# Altium integrated library HAB_Components.IntLib: 21 symbols
Pins are listed as number, name and electrical type; pins without a type are passive.

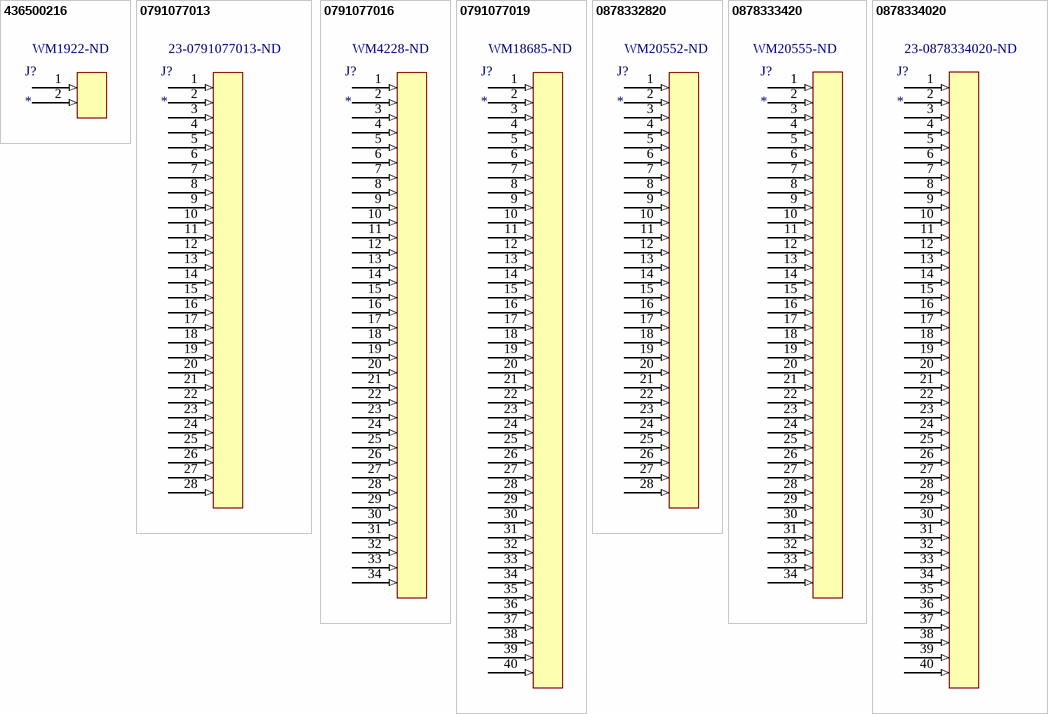
[diagram p0: symbols 436500216 to 0878334020]

## 436500216
designator J?  Supplier Part Number 1: WM1922-ND
Supplier 1: Digi-Key
footprint 436500216 (2 pin microfit header, vertical)
pins: 1 (in), 2 (in)

## 0791077013
designator J?  Supplier Part Number 1: 23-0791077013-ND
Supplier 1: Digi-Key
footprint 0791077013 (28 pin milli-grid receptacle, vertical)
pins: 1 (in), 2 (in), 3 (in), 4 (in), 5 (in), 6 (in), 7 (in), 8 (in), 9 (in), 10 (in), 11 (in), 12 (in), 13 (in), 14 (in), 15 (in), 16 (in), 17 (in), 18 (in), 19 (in), 20 (in), 21 (in), 22 (in), 23 (in), 24 (in), 25 (in), 26 (in), 27 (in), 28 (in)

## 0791077016
designator J?  Supplier Part Number 1: WM4228-ND
Supplier 1: Digi-Key
footprint 0791077016 (34 pin milli-grid receptacle, vertical)
pins: 1 (in), 2 (in), 3 (in), 4 (in), 5 (in), 6 (in), 7 (in), 8 (in), 9 (in), 10 (in), 11 (in), 12 (in), 13 (in), 14 (in), 15 (in), 16 (in), 17 (in), 18 (in), 19 (in), 20 (in), 21 (in), 22 (in), 23 (in), 24 (in), 25 (in), 26 (in), 27 (in), 28 (in), 29 (in), 30 (in), 31 (in), 32 (in), 33 (in), 34 (in)

## 0791077019
designator J?  Supplier Part Number 1: WM18685-ND
Supplier 1: Digi-Key
footprint 0791077019 (40 pin milli-grid receptacle, vertical)
pins: 1 (in), 2 (in), 3 (in), 4 (in), 5 (in), 6 (in), 7 (in), 8 (in), 9 (in), 10 (in), 11 (in), 12 (in), 13 (in), 14 (in), 15 (in), 16 (in), 17 (in), 18 (in), 19 (in), 20 (in), 21 (in), 22 (in), 23 (in), 24 (in), 25 (in), 26 (in), 27 (in), 28 (in), 29 (in), 30 (in), 31 (in), 32 (in), 33 (in), 34 (in), 35 (in), 36 (in), 37 (in), 38 (in), 39 (in), 40 (in)

## 0878332820
designator J?  Supplier Part Number 1: WM20552-ND
Supplier 1: Digi-Key
footprint 0878332820 (28 pin milli-grid header, right-angle)
pins: 1 (in), 2 (in), 3 (in), 4 (in), 5 (in), 6 (in), 7 (in), 8 (in), 9 (in), 10 (in), 11 (in), 12 (in), 13 (in), 14 (in), 15 (in), 16 (in), 17 (in), 18 (in), 19 (in), 20 (in), 21 (in), 22 (in), 23 (in), 24 (in), 25 (in), 26 (in), 27 (in), 28 (in)

## 0878333420
designator J?  Supplier Part Number 1: WM20555-ND
Supplier 1: Digi-Key
footprint 0878333420 (34 pin milli-grid header, right-angle)
pins: 1 (in), 2 (in), 3 (in), 4 (in), 5 (in), 6 (in), 7 (in), 8 (in), 9 (in), 10 (in), 11 (in), 12 (in), 13 (in), 14 (in), 15 (in), 16 (in), 17 (in), 18 (in), 19 (in), 20 (in), 21 (in), 22 (in), 23 (in), 24 (in), 25 (in), 26 (in), 27 (in), 28 (in), 29 (in), 30 (in), 31 (in), 32 (in), 33 (in), 34 (in)

## 0878334020
designator J?  Supplier Part Number 1: 23-0878334020-ND
Supplier 1: Digi-Key
footprint 0878334020 (40 pin milli-grid header, right-angle)
pins: 1 (in), 2 (in), 3 (in), 4 (in), 5 (in), 6 (in), 7 (in), 8 (in), 9 (in), 10 (in), 11 (in), 12 (in), 13 (in), 14 (in), 15 (in), 16 (in), 17 (in), 18 (in), 19 (in), 20 (in), 21 (in), 22 (in), 23 (in), 24 (in), 25 (in), 26 (in), 27 (in), 28 (in), 29 (in), 30 (in), 31 (in), 32 (in), 33 (in), 34 (in), 35 (in), 36 (in), 37 (in), 38 (in), 39 (in), 40 (in)


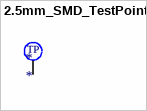
[diagram p1: symbol 2.5mm_SMD_TestPoint]

## 2.5mm_SMD_TestPoint
designator *
footprint 2.5mm TestPoint
pins: 1
text: TP


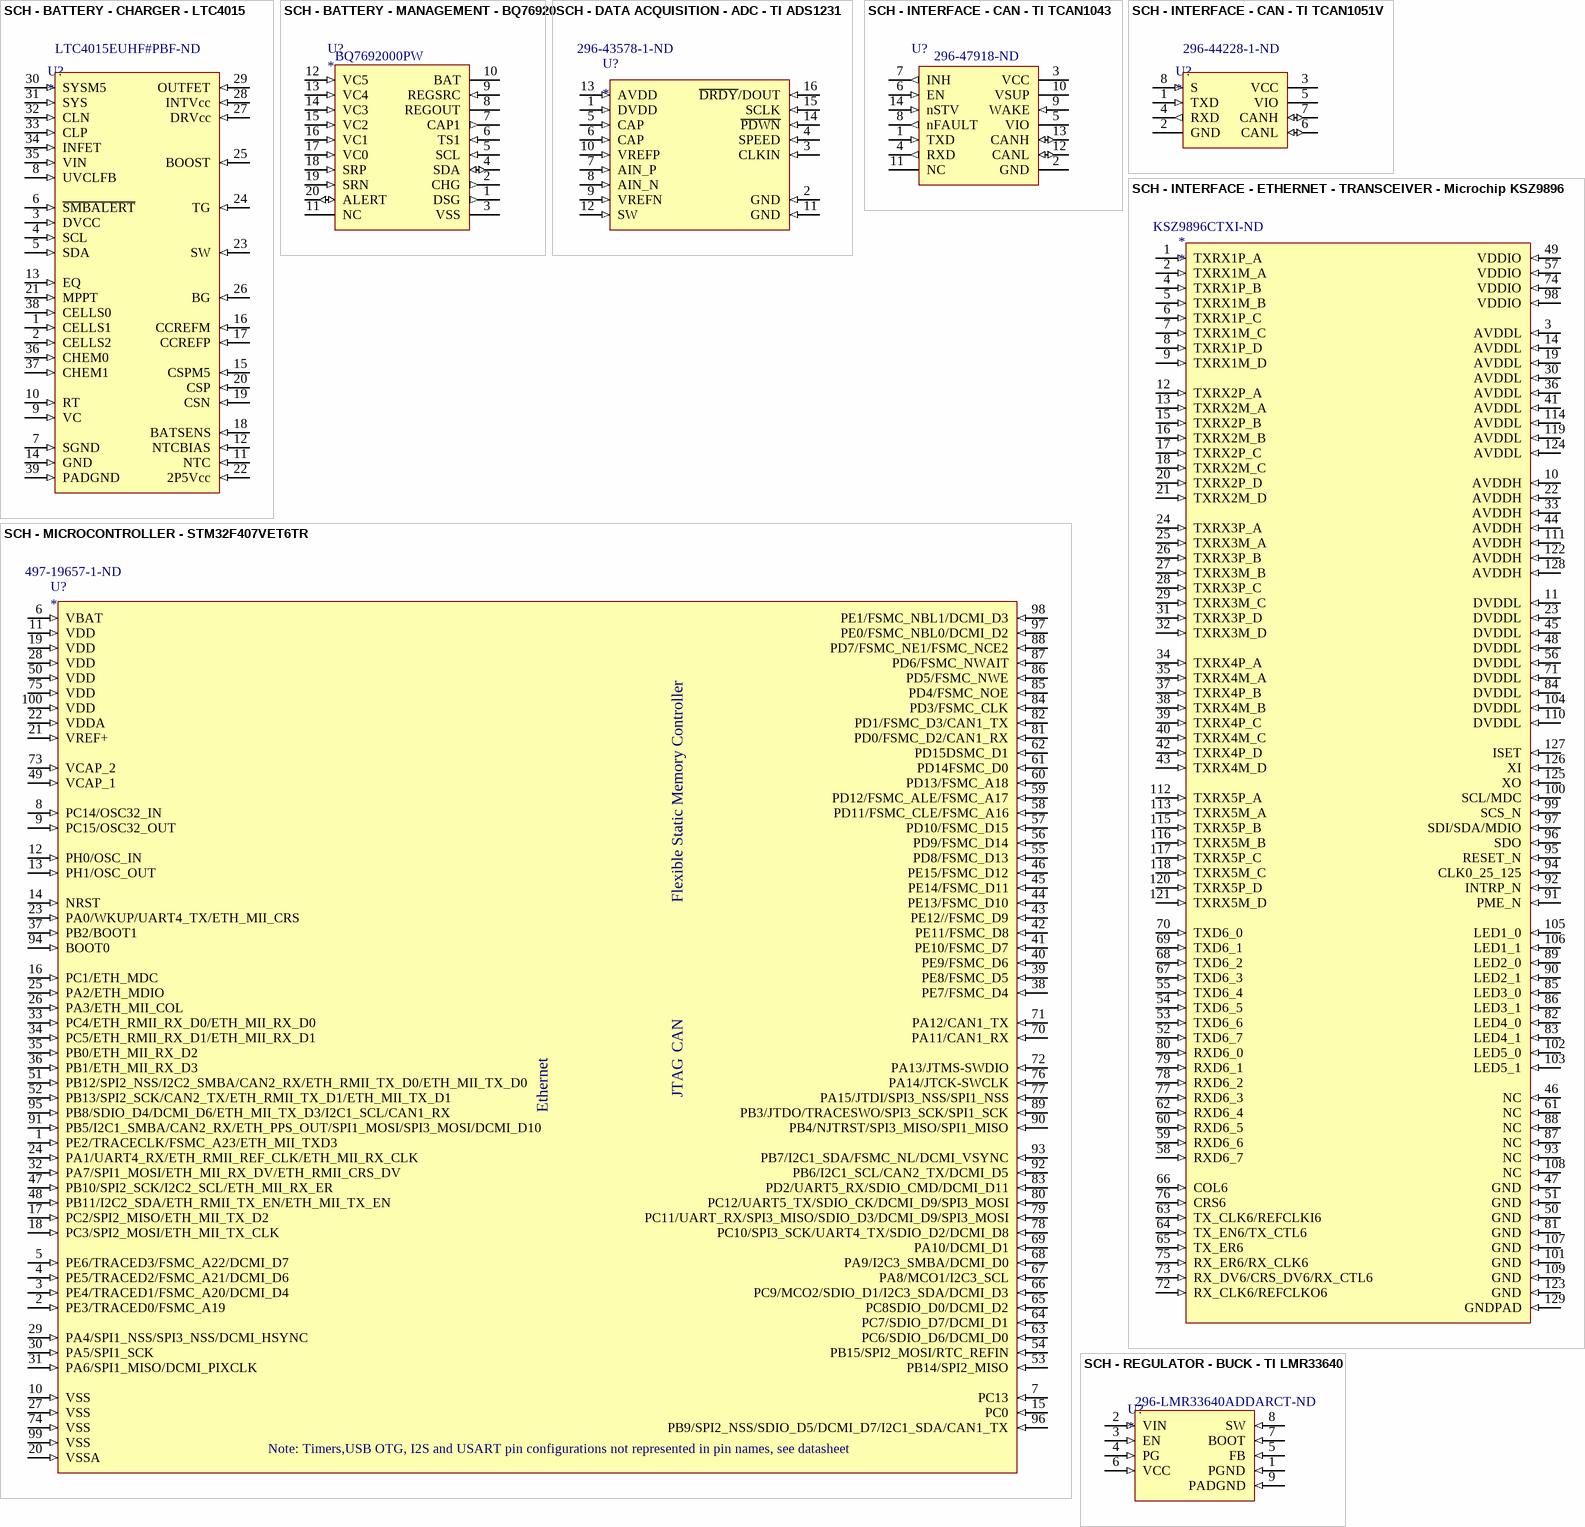
[diagram p2: symbols SCH - BATTERY - CHARGER - LTC4015 to SCH - REGULATOR - BUCK - TI LMR33640]

## SCH - BATTERY - CHARGER - LTC4015
designator U?  Supplier Part Number 1: LTC4015EUHF#PBF-ND
Supplier 1: Digi-Key
footprint PCB - LEADLESS - QFN - Analog 38-WFQFN
pins: 1 CELLS1 (in), 2 CELLS2 (in), 3 DVCC (in), 4 SCL (in), 5 SDA (in), 6 ~{SMBALERT} (in), 7 SGND (in), 8 UVCLFB (in), 9 VC (in), 10 RT (in), 11 NTC (in), 12 NTCBIAS (in), 13 EQ (in), 14 GND (in), 15 CSPM5 (in), 16 CCREFM (in), 17 CCREFP (in), 18 BATSENS (in), 19 CSN (in), 20 CSP (in), 21 MPPT (in), 22 2P5Vcc (in), 23 SW (in), 24 TG (in), 25 BOOST (in), 26 BG (in), 27 DRVcc (in), 28 INTVcc (in), 29 OUTFET (in), 30 SYSM5 (in), 31 SYS (in), 32 CLN (in), 33 CLP (in), 34 INFET (in), 35 VIN (in), 36 CHEM0 (in), 37 CHEM1 (in), 38 CELLS0 (in), 39 PADGND (in)

## SCH - BATTERY - MANAGEMENT - BQ76920
designator U?  Supplier Part Number 1: BQ7692000PW
Supplier 1: Rochester Electronics
footprint PCB - LEADS - SOP - TI 20-TSSOP
pins: 1 DSG (out), 2 CHG (out), 3 VSS (power), 4 SDA (io), 5 SCL (in), 6 TS1 (in), 7 CAP1 (out), 8 REGOUT (power), 9 REGSRC (in), 10 BAT (power), 11 NC, 12 VC5 (in), 13 VC4 (in), 14 VC3 (in), 15 VC2 (in), 16 VC1 (in), 17 VC0 (in), 18 SRP (in), 19 SRN (in), 20 ALERT (io)

## SCH - DATA ACQUISITION - ADC - TI ADS1231
designator U?  Supplier Part Number 1: 296-43578-1-ND
Supplier 1: Digi-Key
footprint PCB - LEADS - SOIC - TI 16-SOIC (SOIC, 16-Leads, Body 9.90x3.90mm, Pitch 1.27mm, IPC Medium Density)
pins: 1 DVDD (in), 2 GND (in), 3 CLKIN (in), 4 SPEED (in), 5 CAP (in), 6 CAP (in), 7 AIN_P (in), 8 AIN_N (in), 9 VREFN (in), 10 VREFP (in), 11 GND (in), 12 SW (in), 13 AVDD (in), 14 ~{PDWN} (in), 15 SCLK (in), 16 ~{DRDY}/DOUT (in)

## SCH - INTERFACE - CAN - TI TCAN1043
designator U?  Supplier Part Number 1: 296-47918-ND
Supplier 1: Digi-Key
footprint PCB - LEADS - SOIC - TI 14-SOIC
pins: 1 TXD (in), 2 GND (power), 3 VCC (power), 4 RXD (out), 5 VIO (power), 6 EN (in), 7 INH (out), 8 nFAULT (out), 9 WAKE (in), 10 VSUP (power), 11 NC, 12 CANL (io), 13 CANH (io), 14 nSTV (in)

## SCH - INTERFACE - CAN - TI TCAN1051V
designator U?  Supplier Part Number 1: 296-44228-1-ND
Supplier 1: Digi-Key
footprint PCB - LEADS - SOIC - TI SOIC-8 (SOIC, 8-Leads, Body 4.91x3.90mm, Pitch 1.27mm, IPC Medium Density)
pins: 1 TXD (in), 2 GND (power), 3 VCC (power), 4 RXD (out), 5 VIO (power), 6 CANL (io), 7 CANH (io), 8 S (in)

## SCH - INTERFACE - ETHERNET - TRANSCEIVER - Microchip KSZ9896
designator *  Supplier Part Number 1: KSZ9896CTXI-ND
Supplier 1: Digi-Key
footprint PCB - LEADS - QFP - Microchip 128-TQFP
pins: 1 TXRX1P_A (in), 2 TXRX1M_A (in), 3 AVDDL (in), 4 TXRX1P_B (in), 5 TXRX1M_B (in), 6 TXRX1P_C (in), 7 TXRX1M_C (in), 8 TXRX1P_D (in), 9 TXRX1M_D (in), 10 AVDDH (in), 11 DVDDL (in), 12 TXRX2P_A (in), 13 TXRX2M_A (in), 14 AVDDL (in), 15 TXRX2P_B (in), 16 TXRX2M_B (in), 17 TXRX2P_C (in), 18 TXRX2M_C (in), 19 AVDDL (in), 20 TXRX2P_D (in), 21 TXRX2M_D (in), 22 AVDDH (in), 23 DVDDL (in), 24 TXRX3P_A (in), 25 TXRX3M_A (in), 26 TXRX3P_B (in), 27 TXRX3M_B (in), 28 TXRX3P_C (in), 29 TXRX3M_C (in), 30 AVDDL (in), 31 TXRX3P_D (in), 32 TXRX3M_D (in), 33 AVDDH (in), 34 TXRX4P_A (in), 35 TXRX4M_A (in), 36 AVDDL (in), 37 TXRX4P_B (in), 38 TXRX4M_B (in), 39 TXRX4P_C (in), 40 TXRX4M_C (in), 41 AVDDL (in), 42 TXRX4P_D (in), 43 TXRX4M_D (in), 44 AVDDH (in), 45 DVDDL (in), 46 NC (in), 47 GND (in), 48 DVDDL (in), 49 VDDIO (in), 50 GND (in), 51 GND (in), 52 TXD6_7 (in), 53 TXD6_6 (in), 54 TXD6_5 (in), 55 TXD6_4 (in), 56 DVDDL (in), 57 VDDIO (in), 58 RXD6_7 (in), 59 RXD6_6 (in), 60 RXD6_5 (in), 61 NC (in), 62 RXD6_4 (in), 63 TX_CLK6/REFCLKI6 (in), 64 TX_EN6/TX_CTL6 (in), 65 TX_ER6 (in), 66 COL6 (in), 67 TXD6_3 (in), 68 TXD6_2 (in), 69 TXD6_1 (in), 70 TXD6_0 (in), 71 DVDDL (in), 72 RX_CLK6/REFCLKO6 (in), 73 RX_DV6/CRS_DV6/RX_CTL6 (in), 74 VDDIO (in), 75 RX_ER6/RX_CLK6 (in), 76 CRS6 (in), 77 RXD6_3 (in), 78 RXD6_2 (in), 79 RXD6_1 (in), 80 RXD6_0 (in), 81 GND (in), 82 LED4_0 (in), 83 LED4_1 (in), 84 DVDDL (in), 85 LED3_0 (in), 86 LED3_1 (in), 87 NC (in), 88 NC (in), 89 LED2_0 (in), 90 LED2_1 (in), 91 PME_N (in), 92 INTRP_N (in), 93 NC (in), 94 CLK0_25_125 (in), 95 RESET_N (in), 96 SDO (in), 97 SDI/SDA/MDIO (in), 98 VDDIO (in), 99 SCS_N (in), 100 SCL/MDC (in), 101 GND (in), 102 LED5_0 (in), 103 LED5_1 (in), 104 DVDDL (in), 105 LED1_0 (in), 106 LED1_1 (in), 107 GND (in), 108 NC (in), 109 GND (in), 110 DVDDL (in), 111 AVDDH (in), 112 TXRX5P_A (in), 113 TXRX5M_A (in), 114 AVDDL (in), 115 TXRX5P_B (in), 116 TXRX5M_B (in), 117 TXRX5P_C (in), 118 TXRX5M_C (in), 119 AVDDL (in), 120 TXRX5P_D (in), 121 TXRX5M_D (in), 122 AVDDH (in), 123 GND (in), 124 AVDDL (in), 125 XO (in), 126 XI (in), 127 ISET (in), 128 AVDDH (in), 129 GNDPAD (in)

## SCH - MICROCONTROLLER - STM32F407VET6TR
designator U?  Supplier Part Number 1: 497-19657-1-ND
Supplier 1: Digi-Key
footprint PCB - LEADLESS - QFP - ST LQFP-100 14X14MM (LQFP, 100-Leads, Body 14.00x14.00mm, Pitch 0.50mm, IPC Medium Density)
pins: 1 PE2/TRACECLK/FSMC_A23/ETH_MII_TXD3 (in), 2 PE3/TRACED0/FSMC_A19 (in), 3 PE4/TRACED1/FSMC_A20/DCMI_D4 (in), 4 PE5/TRACED2/FSMC_A21/DCMI_D6 (in), 5 PE6/TRACED3/FSMC_A22/DCMI_D7 (in), 6 VBAT (in), 7 PC13 (in), 8 PC14/OSC32_IN (in), 9 PC15/OSC32_OUT (in), 10 VSS (in), 11 VDD (in), 12 PH0/OSC_IN (in), 13 PH1/OSC_OUT (in), 14 NRST (in), 15 PC0 (in), 16 PC1/ETH_MDC (in), 17 PC2/SPI2_MISO/ETH_MII_TX_D2 (in), 18 PC3/SPI2_MOSI/ETH_MII_TX_CLK (in), 19 VDD (in), 20 VSSA (in), 21 VREF+ (in), 22 VDDA (in), 23 PA0/WKUP/UART4_TX/ETH_MII_CRS (in), 24 PA1/UART4_RX/ETH_RMII_REF_CLK/ETH_MII_RX_CLK (in), 25 PA2/ETH_MDIO (in), 26 PA3/ETH_MII_COL (in), 27 VSS (in), 28 VDD (in), 29 PA4/SPI1_NSS/SPI3_NSS/DCMI_HSYNC (in), 30 PA5/SPI1_SCK (in), 31 PA6/SPI1_MISO/DCMI_PIXCLK (in), 32 PA7/SPI1_MOSI/ETH_MII_RX_DV/ETH_RMII_CRS_DV (in), 33 PC4/ETH_RMII_RX_D0/ETH_MII_RX_D0 (in), 34 PC5/ETH_RMII_RX_D1/ETH_MII_RX_D1 (in), 35 PB0/ETH_MII_RX_D2 (in), 36 PB1/ETH_MII_RX_D3 (in), 37 PB2/BOOT1 (in), 38 PE7/FSMC_D4 (in), 39 PE8/FSMC_D5 (in), 40 PE9/FSMC_D6 (in), 41 PE10/FSMC_D7 (in), 42 PE11/FSMC_D8 (in), 43 PE12//FSMC_D9 (in), 44 PE13/FSMC_D10 (in), 45 PE14/FSMC_D11 (in), 46 PE15/FSMC_D12 (in), 47 PB10/SPI2_SCK/I2C2_SCL/ETH_MII_RX_ER (in), 48 PB11/I2C2_SDA/ETH_RMII_TX_EN/ETH_MII_TX_EN (in), 49 VCAP_1 (in), 50 VDD (in), 51 PB12/SPI2_NSS/I2C2_SMBA/CAN2_RX/ETH_RMII_TX_D0/ETH_MII_TX_D0 (in), 52 PB13/SPI2_SCK/CAN2_TX/ETH_RMII_TX_D1/ETH_MII_TX_D1 (in), 53 PB14/SPI2_MISO (in), 54 PB15/SPI2_MOSI/RTC_REFIN (in), 55 PD8/FSMC_D13 (in), 56 PD9/FSMC_D14 (in), 57 PD10/FSMC_D15 (in), 58 PD11/FSMC_CLE/FSMC_A16 (in), 59 PD12/FSMC_ALE/FSMC_A17 (in), 60 PD13/FSMC_A18 (in), 61 PD14FSMC_D0 (in), 62 PD15DSMC_D1 (in), 63 PC6/SDIO_D6/DCMI_D0 (in), 64 PC7/SDIO_D7/DCMI_D1 (in), 65 PC8SDIO_D0/DCMI_D2 (in), 66 PC9/MCO2/SDIO_D1/I2C3_SDA/DCMI_D3 (in), 67 PA8/MCO1/I2C3_SCL (in), 68 PA9/I2C3_SMBA/DCMI_D0 (in), 69 PA10/DCMI_D1 (in), 70 PA11/CAN1_RX (in), 71 PA12/CAN1_TX (in), 72 PA13/JTMS-SWDIO (in), 73 VCAP_2 (in), 74 VSS (in), 75 VDD (in), 76 PA14/JTCK-SWCLK (in), 77 PA15/JTDI/SPI3_NSS/SPI1_NSS (in), 78 PC10/SPI3_SCK/UART4_TX/SDIO_D2/DCMI_D8 (in), 79 PC11/UART_RX/SPI3_MISO/SDIO_D3/DCMI_D9/SPI3_MOSI (in), 80 PC12/UART5_TX/SDIO_CK/DCMI_D9/SPI3_MOSI (in), 81 PD0/FSMC_D2/CAN1_RX (in), 82 PD1/FSMC_D3/CAN1_TX (in), 83 PD2/UART5_RX/SDIO_CMD/DCMI_D11 (in), 84 PD3/FSMC_CLK (in), 85 PD4/FSMC_NOE (in), 86 PD5/FSMC_NWE (in), 87 PD6/FSMC_NWAIT (in), 88 PD7/FSMC_NE1/FSMC_NCE2 (in), 89 PB3/JTDO/TRACESWO/SPI3_SCK/SPI1_SCK (in), 90 PB4/NJTRST/SPI3_MISO/SPI1_MISO (in), 91 PB5/I2C1_SMBA/CAN2_RX/ETH_PPS_OUT/SPI1_MOSI/SPI3_MOSI/DCMI_D10 (in), 92 PB6/I2C1_SCL/CAN2_TX/DCMI_D5 (in), 93 PB7/I2C1_SDA/FSMC_NL/DCMI_VSYNC (in), 94 BOOT0 (in), 95 PB8/SDIO_D4/DCMI_D6/ETH_MII_TX_D3/I2C1_SCL/CAN1_RX (in), 96 PB9/SPI2_NSS/SDIO_D5/DCMI_D7/I2C1_SDA/CAN1_TX (in), 97 PE0/FSMC_NBL0/DCMI_D2 (in), 98 PE1/FSMC_NBL1/DCMI_D3 (in), 99 VSS (in), 100 VDD (in)
text: Flexible Static Memory Controller; CAN; JTAG; Ethernet; Note: Timers,USB OTG, I2S and USART pin configurations not represented in pin names, see datasheet

## SCH - REGULATOR - BUCK - TI LMR33640
designator U?  Supplier Part Number 1: 296-LMR33640ADDARCT-ND
Supplier 1: Digi-Key
footprint PCB - LEADS - SOIC - TI 8-PowerSOIC
pins: 1 PGND (in), 2 VIN (in), 3 EN (in), 4 PG (in), 5 FB (in), 6 VCC (in), 7 BOOT (in), 8 SW (in), 9 PADGND (in)

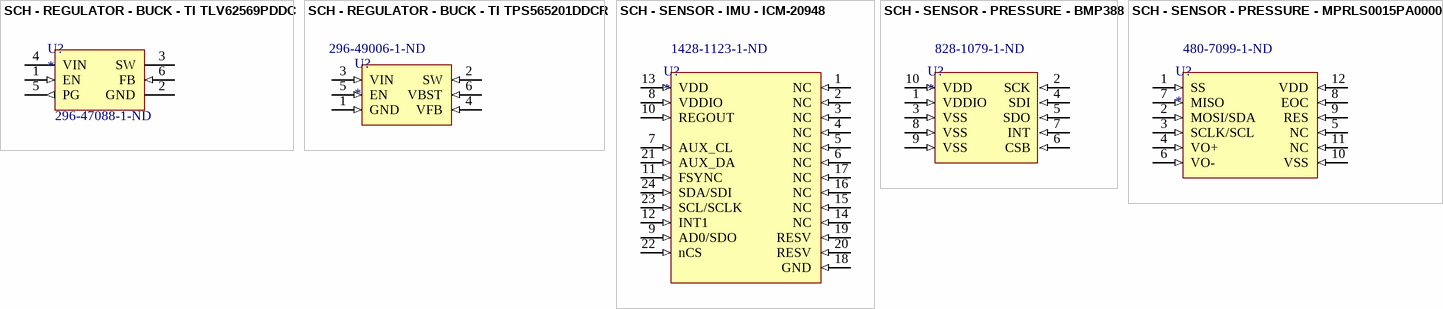
[diagram p3: symbols SCH - REGULATOR - BUCK - TI TLV62569PDDC to SCH - SENSOR - PRESSURE - MPRLS0015PA0000SA]

## SCH - REGULATOR - BUCK - TI TLV62569PDDC
designator U?  Supplier Part Number 1: 296-47088-1-ND
Supplier 1: Digi-Key
footprint PCB - LEADS - SOT- TI TSOT-23-6
pins: 1 EN (in), 2 GND (power), 3 SW (power), 4 VIN (power), 5 PG (out), 6 FB (in)

## SCH - REGULATOR - BUCK - TI TPS565201DDCR
designator U?  Supplier Part Number 1: 296-49006-1-ND
Supplier 1: Digi-Key
footprint PCB - LEADS - SOT- TI TSOT-23-6
pins: 1 GND (in), 2 SW (in), 3 VIN (in), 4 VFB (in), 5 EN (in), 6 VBST (in)

## SCH - SENSOR - IMU - ICM-20948
designator U?  Supplier Part Number 1: 1428-1123-1-ND
Supplier 1: Digi-Key
footprint PCB - LEADLESS - QFN - TDK 24-TFQFN
pins: 1 NC (in), 2 NC (in), 3 NC (in), 4 NC (in), 5 NC (in), 6 NC (in), 7 AUX_CL (in), 8 VDDIO (in), 9 AD0/SDO (in), 10 REGOUT (in), 11 FSYNC (in), 12 INT1 (in), 13 VDD (in), 14 NC (in), 15 NC (in), 16 NC (in), 17 NC (in), 18 GND (in), 19 RESV (in), 20 RESV (in), 21 AUX_DA (in), 22 nCS (in), 23 SCL/SCLK (in), 24 SDA/SDI (in)

## SCH - SENSOR - PRESSURE - BMP388
designator U?  Supplier Part Number 1: 828-1079-1-ND
Supplier 1: Digi-Key
footprint PCB - LEADLESS - BOSCH LGA10
pins: 1 VDDIO (in), 2 SCK (in), 3 VSS (in), 4 SDI (in), 5 SDO (in), 6 CSB (in), 7 INT (in), 8 VSS (in), 9 VSS (in), 10 VDD (in)

## SCH - SENSOR - PRESSURE - MPRLS0015PA0000SA
designator U?  Supplier Part Number 1: 480-7099-1-ND
Supplier 1: Digi-Key
footprint PCB - LEADLESS - SMD - Honeywell SMD12
pins: 1 SS (in), 2 MOSI/SDA (in), 3 SCLK/SCL (in), 4 VO+ (in), 5 NC (in), 6 VO- (in), 7 MISO (in), 8 EOC (in), 9 RES (in), 10 VSS (in), 11 NC (in), 12 VDD (in)